# EAGLE library part TPIC6595 (library monome)
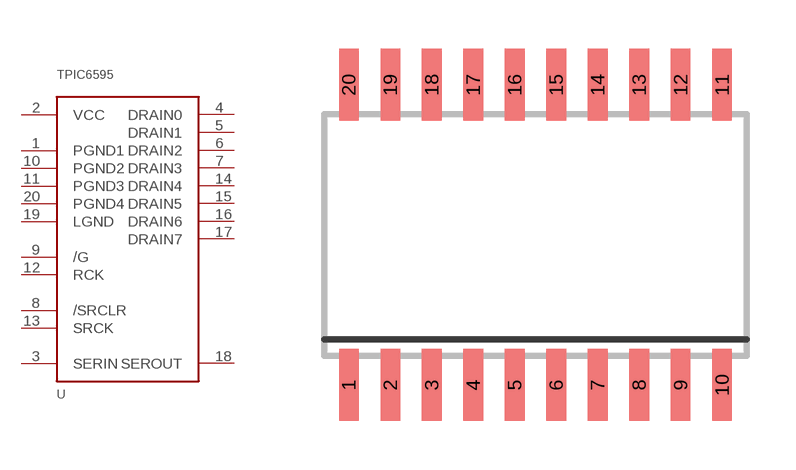
[diagram p9: symbol with the pads of SO-20DW; footprint SO-20DW]

Designator prefix -

## TPIC6595  [SO-20DW]
1  PGND1  pwr
2  VCC  pwr
3  SERIN
4  DRAIN0
5  DRAIN1
6  DRAIN2
7  DRAIN3
8  /SRCLR
9  /G
10  PGND2  pwr
11  PGND3  pwr
12  RCK
13  SRCK
14  DRAIN4
15  DRAIN5
16  DRAIN6
17  DRAIN7
18  SEROUT
19  LGND  pwr
20  PGND4  pwr

## Footprint SO-20DW (pad centres in mm)
Small Outline Integrated Circuit wide
smd 0.6 x 2.2: 1 -5.715,-4.6; 2 -4.445,-4.6; 3 -3.175,-4.6; 4 -1.905,-4.6; 5 -0.635,-4.6; 6 0.635,-4.6; 7 1.905,-4.6; 8 3.175,-4.6; 9 4.445,-4.6; 10 5.715,-4.6; 11 5.715,4.6; 12 4.445,4.6; 13 3.175,4.6; 14 1.905,4.6; 15 0.635,4.6; 16 -0.635,4.6; 17 -1.905,4.6; 18 -3.175,4.6; 19 -4.445,4.6; 20 -5.715,4.6